# Altium footprint library Transistor.PcbLib: 15 footprints
Each footprint in its own frame and in the unit in brackets; x right, y up, seen from the top. Pads: shape width x height; smd on the part's side, far side on the other; paste and mask are expansions set on the pad; w line width, h text height; cw(c..) or ccw(c..) is an arc to the next point about the centre after c.
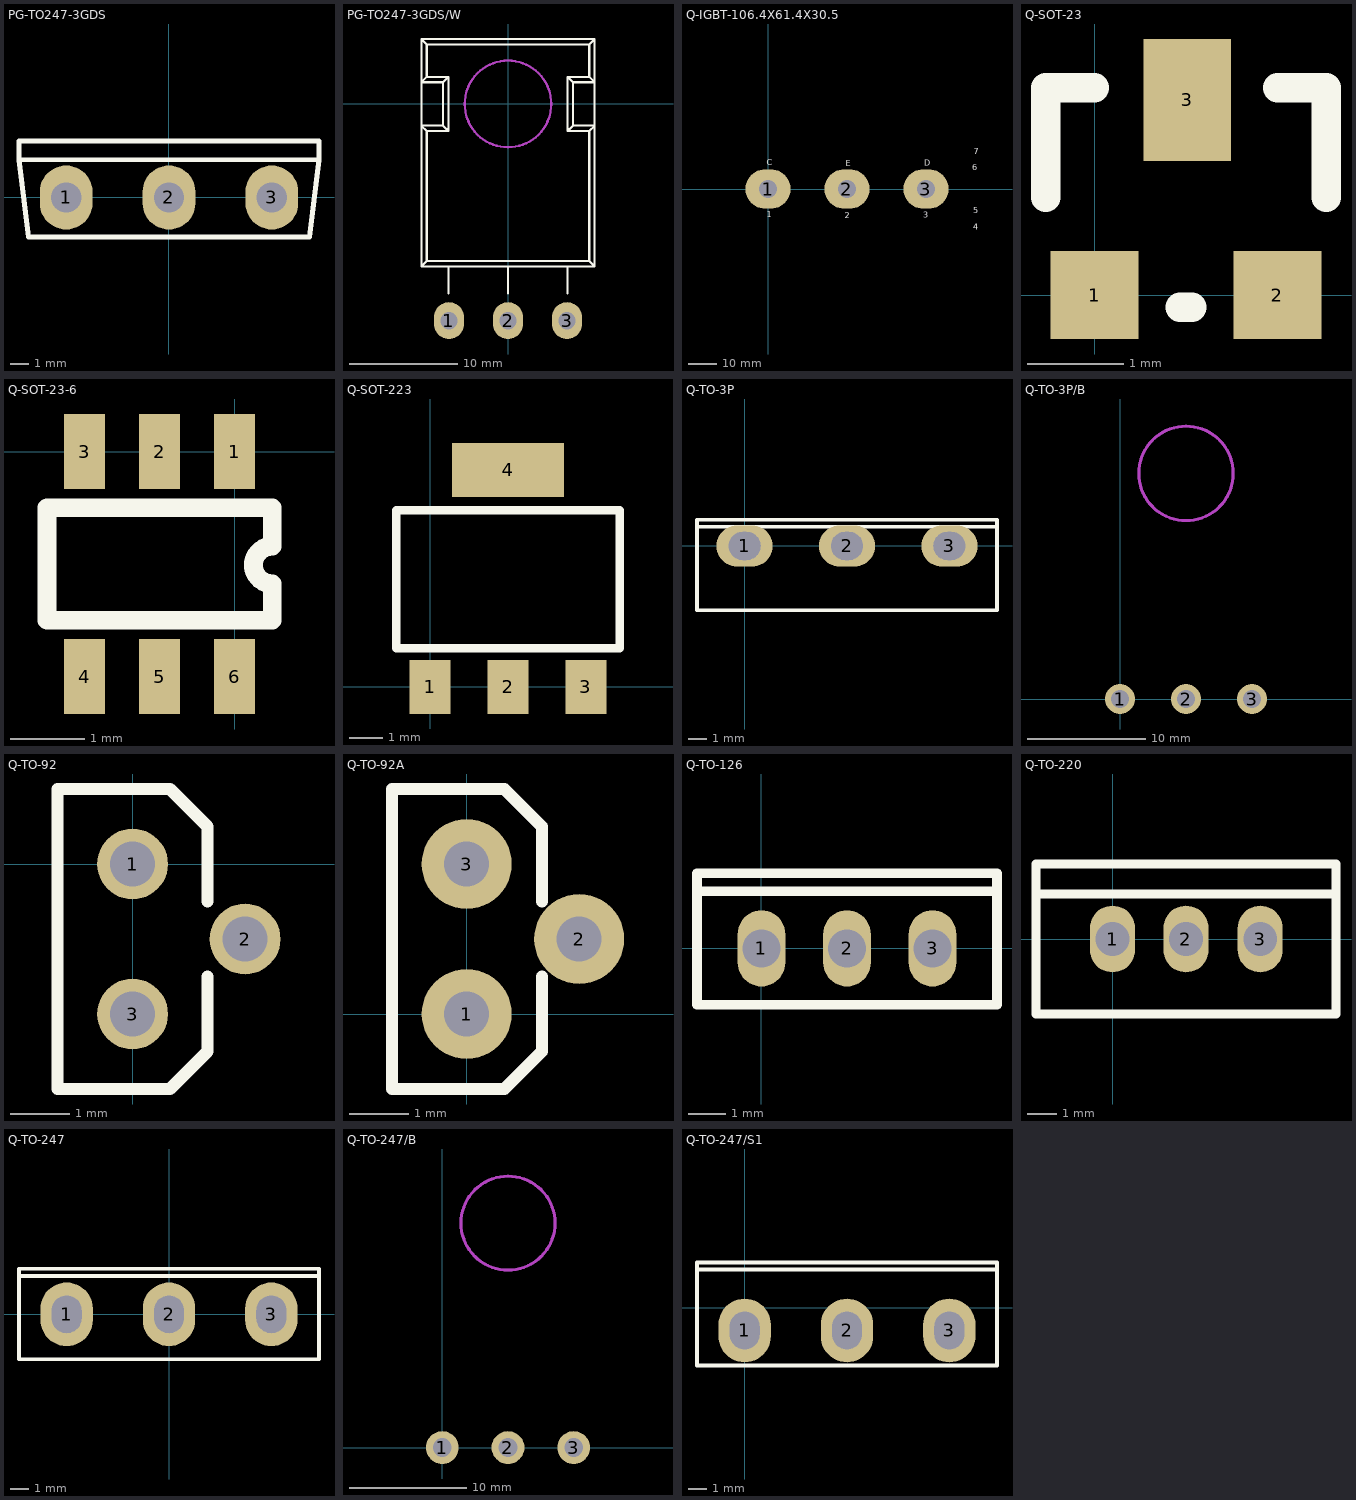
[diagram p0: the footprints below, top view; thin cyan lines are the x and y axes]

## PG-TO247-3GDS [mm]
pads (3):
  oval 2.8x3.4 hole 1.6: 1(-5.45,0) 2(0,0) 3(5.45,0)
Top Overlay:
  lines w0.254: -7.95,2 -7.95,3 7.95,3 7.95,2 ; -7.95,2 7.95,2 ; -7.95,2 -7.45,-2.1 7.45,-2.1 7.95,2
3D body: height 4.83, standoff -1.02, extent -8.077,-2.227 8.077,3.127
3D body: height 4.83, standoff -1.02, extent -8.077,-2.227 8.077,3.127
3D body: height 4.83, standoff -1.02, extent -8.077,-2.227 8.077,3.127
3D body: height 24.64, standoff 4.32, extent -8.077,-2.227 8.077,3.127

## PG-TO247-3GDS/W [mm]
pads (3):
  oval 2.8x3.4 hole 1.6: 1(-5.45,-20) 2(0,-20) 3(5.45,-20)
Top Overlay:
  lines w0.2: -5.5,-17.5 -5.5,-15 ; 0,-17.5 0,-15 ; 5.5,-17.5 5.5,-15 ; -8,-15 -7.5,-14.5 ; -8,-15 -8,6 ; -8,-15 8,-15 ; -8,2 -8,2 ; -8,2 -7.5,2.5 ; -8,2 -6,2 ; -8,6 -7.5,5.5 ; -8,6 8,6 ; -7.5,-14.5 7.5,-14.5 ; -7.5,-14.5 -7.5,-2.5 ; -7.5,-2.5 -5.5,-2.5 ; -7.5,-2.5 -8,-2 -6,-2 ; -7.5,2.5 -5.5,2.5 ; -7.5,2.5 -7.5,3.5 -7.5,5.5 ; -7.5,5.5 7.5,5.5 ; -6,-2 -5.5,-2.5 ; -6,-2 -6,2 ; -6,2 -5.5,2.5 ; -5.5,-2.5 -5.5,-2.5 ; -5.5,-2.5 -5.5,2.5 ; 5.5,-2.5 6,-2 ; 5.5,-2.5 7.5,-2.5 ; 5.5,-2.5 5.5,2.5 ; 5.5,2.5 6,2 ; 5.5,2.5 7.5,2.5 ; 6,-2 6,-2 ; 6,-2 6,2 ; 6,-2 8,-2 7.5,-2.5 ; 6,2 8,2 ; 7.5,-14.5 7.5,-2.5 ; 7.5,-14.5 8,-15 ; 7.5,-14.5 8,-15 ; 7.5,2.5 8,2 ; 7.5,2.5 7.5,5.5 ; 7.5,5.5 8,6 ; 8,-15 8,6 ; 8,2 8,2
Keep-Out Layer:
  circle w0.2: c0,0 r4
Mechanical 1:
  circle w0.2: c0,0 r4

## Q-IGBT-106.4X61.4X30.5 [mm] "IGBT-FF200R12KS4"
pads (3):
  oval 16x14 hole 6.4: 1(0,0) 2(28,0) 3(56,0)
Top Overlay:
  text "7" at 72.9,12.4 h2.03
  text "6" at 72.5,6.7 h2.03
  text "5" at 72.7,-8.6 h2.03
  text "4" at 72.7,-14.5 h2.03
  text "C" at -0.5,8.382 h2.03
  text "3" at 55.1,-10.2 h2.03
  text "2" at 27.2,-10.3 h2.03
  text "1" at -0.5,-10.1 h2.03
  text "E" at 27.586,8.128 h2.03
  text "D" at 55.48,8.274 h2.03
Bottom Overlay:
  circle w0.254: c74.5,24 r3.2
  circle w0.254: c74.5,-24 r3.2
  circle w0.254: c-18.5,-24 r3.2
  circle w0.254: c-18.5,24 r3.2
  lines w0.254: -12,15 68,15 ; -11.984,-14.986 -11.984,14.986 ; -11.968,-14.972 44.958,-14.986 ; 11.022,-14.986 11.022,14.986 17.018,14.986 ; 17.018,-14.786 17.018,15 ; 39.016,-14.986 39.016,14.986 ; 44.958,14.986 44.958,-14.986 ; 67.964,14.986 67.964,-14.986 44.958,-14.986 ; -25.2,-28.7 ccw(c-23.2,-28.7) -23.2,-30.7 79.2,-30.7 ccw(c79.2,-28.7) 81.2,-28.7 81.2,28.7 ccw(c79.2,28.7) 79.2,30.7 -23.2,30.7 ccw(c-23.2,28.7) -25.2,28.7 -25.2,-28.7 ; 72.4,-15.5 72.4,-5.5 79.2,-5.5 79.2,-15.5 72.4,-15.5 ; 72.4,5.5 72.4,15.5 79.2,15.5 79.2,5.5 72.4,5.5 ; 74.4,-13.7 74.4,-13.3 77.2,-13.3 77.2,-13.7 74.4,-13.7 ; 74.4,-7.7 74.4,-7.3 77.2,-7.3 77.2,-7.7 74.4,-7.7 ; 74.4,7.3 74.4,7.7 77.2,7.7 77.2,7.3 74.4,7.3 ; 74.4,13.3 74.4,13.7 77.2,13.7 77.2,13.3 74.4,13.3
3D body: height -7.5, standoff -30.5, extent -25.146,-30.607 81.153,30.607
3D body: height -1.5, standoff -7.5, extent -11.938,-14.986 11.049,14.986
3D body: height -1.5, standoff -7.5, extent 17.018,-14.986 39.049,14.986
3D body: height -1.5, standoff -7.5, extent 44.958,-14.986 67.945,14.986
3D body: height -0.5, standoff -1.5, extent -7.239,-10.16 7.239,10.16
3D body: height -0.5, standoff -1.5, extent 20.955,-10.287 35.433,10.033
3D body: height -0.5, standoff -1.5, extent 48.761,-10.16 63.239,10.16
3D body: height -4, standoff -7.5, extent 72.517,-15.367 79.121,-5.588
3D body: height -4, standoff -7.5, extent 72.517,5.588 79.121,15.367
3D body: height 1, standoff -4, extent 74.422,-13.716 77.089,-13.335
3D body: height 1, standoff -4, extent 74.422,-7.62 77.216,-7.239
3D body: height 1, standoff -4, extent 74.422,7.366 77.216,7.747
3D body: height 1, standoff -4, extent 74.422,13.335 77.216,13.716

## Q-SOT-23 [mil]
pads (3):
  rect 36x36 smd: 1(0,0) 2(75,0)
  rect 36x50 smd: 3(38,80)
Top Overlay:
  lines w12: -20,40 -20,85 0,85 ; 35,-5 40,-5 ; 75,85 95,85 95,40
3D body: height 10, standoff 0, extent 58,-10 92,15
3D body: height 10, standoff 0, extent -17,-10 17,15
3D body: height 10, standoff 0, extent 21,65 55,90
3D body: height 50, standoff 3, extent -20,12.5 95,67.5

## Q-SOT-23-6 [mil]
pads (6):
  rect 22x40 smd: 1(0,0) 2(-40,0) 3(-80,0) 4(-80,-120) 5(-40,-120) 6(0,-120)
Top Overlay:
  lines w10: 20,-73 20,-90 -100,-90 -100,-30 20,-30 20,-50.56 ccw(c20,-60.56) 20,-70.56
3D body: height 10, standoff 0, extent -49.5,-127 -30.5,-85
3D body: height 10, standoff 0, extent -9.5,-127 9.5,-85
3D body: height 10, standoff 0, extent -89.5,-127 -70.5,-85
3D body: height 10, standoff 0, extent -9.5,-32 9.5,10
3D body: height 10, standoff 0, extent -49.5,-32 -30.5,10
3D body: height 59.06, standoff 3.94, extent -101,-89 19,-29
3D body: height 10, standoff 0, extent -89.5,-32 -70.5,10

## Q-SOT-223 [mm]
pads (4):
  rect 1.2x1.6 smd: 1(0,0) 2(2.3,0) 3(4.6,0)
  rect 3.3x1.6 smd: 4(2.3,6.4)
Top Overlay:
  lines w0.254: -1,1.143 -1,5.207 5.6,5.207 5.6,1.143 -1,1.143
3D body: height 1.27, standoff 0.08, extent -1.129,1.4 5.729,4.956
3D body: height 0.25, standoff 0, extent -0.432,-0.8 0.432,1.486
3D body: height 0.25, standoff 0, extent 1.868,-0.8 2.732,1.486
3D body: height 0.25, standoff 0, extent 4.168,-0.8 5.032,1.486
3D body: height 0.25, standoff 0, extent 0.928,4.95 3.722,7.236

## Q-TO-3P [mm]
pads (3):
  oval 3x2.2 hole 1.5 slot 1.7 at 0 deg: 1(0,0) 2(5.461,0) 3(10.922,0)
Top Overlay:
  lines w0.2: -2.54,1.019 13.462,1.019 ; -2.54,-3.426 13.462,-3.426 13.462,1.4 -2.54,1.4 -2.54,-3.426
3D body: height 4.83, standoff -1.02, extent 10.16,-0.254 11.684,0.254
3D body: height 4.83, standoff -1.02, extent 4.699,-0.254 6.223,0.254
3D body: height 4.83, standoff -1.02, extent -0.762,-0.254 0.762,0.254
3D body: height 24.64, standoff 4.32, extent -2.54,-3.314 13.462,1.004

## Q-TO-3P/B [mm] "TO-247/B"
pads (3):
  round 2.54 hole 1.5: 1(0,0) 2(5.588,0) 3(11.176,0)
Bottom Overlay:
  lines w0.254: -1.524,4.064 -1.524,1.27 -1.27,0.762 ; 1.27,0.762 1.524,1.27 1.524,4.064 ; 4.064,4.064 4.064,1.27 4.318,0.762 ; 6.858,0.762 7.112,1.27 7.112,4.064 ; 9.652,4.064 9.652,1.27 9.906,0.762 ; 12.446,0.762 12.7,1.27 12.7,4.064 ; -2.794,4.064 13.97,4.064 13.97,22.098 12.7,24.13 -1.524,24.13 -2.794,22.098 -2.794,4.064 ; -0.254,7.582 -0.254,13.424 0.254,13.932 10.922,13.932 11.43,13.424 11.43,7.582 10.922,7.074 0.254,7.074 -0.254,7.582
Keep-Out Layer:
  circle w0.254: c5.588,19.1 r4
Mechanical 1:
  circle w0.254: c5.588,19.1 r4
3D body: height -7.62, standoff -12.7, extent -2.794,4.064 13.97,24.13
3D body: height 0, standoff -13.97, extent 3.81,17.272 7.352,20.821
3D body: height -9.65, standoff -10.16, extent -1.143,0.127 1.143,4.064
3D body: height -9.65, standoff -10.16, extent 10.033,0.127 12.319,4.064
3D body: height -9.65, standoff -10.16, extent 3.937,0.127 7.239,4.064
3D body: height 0.76, standoff -10.16, extent -0.762,0.127 0.762,0.381
3D body: height 0.76, standoff -10.16, extent 4.826,0.127 6.35,0.381
3D body: height 0.76, standoff -10.16, extent 10.414,0.127 11.938,0.381

## Q-TO-92 [mm]
pads (3):
  round 1.2 hole 0.762: 1(0,0) 2(1.905,-1.27) 3(0,-2.54)
Top Overlay:
  lines w0.203: 1.27,-1.905 1.27,-3.175 0.635,-3.81 -1.27,-3.81 -1.27,1.27 0.635,1.27 1.27,0.635 1.27,-0.635
3D body: height 5.2, standoff -0.57, extent 0.031,-1.523 2.032,-1.016
3D body: height 5.33, standoff -0.51, extent -0.254,-2.794 0.252,-2.287
3D body: height 5.33, standoff -0.51, extent -0.254,-0.254 0.252,0.253
3D body: height 7.62, standoff 5.08, extent -1.27,-3.556 1.27,1.27

## Q-TO-92A [mil]
pads (3):
  round 60 hole 30: 1(0,0) 2(75,50) 3(0,100)
Top Overlay:
  lines w8: 50,25 50,-25 25,-50 -50,-50 -50,150 25,150 50,125 50,75
3D body: height 300, standoff 200, extent -30,-40 70,150
3D body: height 210, standoff -20, extent -10,90 9.92,109.96
3D body: height 210, standoff -20, extent -10,-10 9.92,9.96
3D body: height 204.75, standoff -22.57, extent 1.23,40.04 80,60

## Q-TO-126 [mil]
pads (3):
  oval 50x80 hole 40: 1(0,0) 2(89.76,0) 3(179.53,0)
Top Overlay:
  lines w10: -67.72,60 247.24,60 ; -67.72,-59.06 -67.72,78.74 247.24,78.74 247.24,-59.06 -67.72,-59.06
3D body: height 150, standoff -40, extent -20,-5 20,5
3D body: height 550, standoff 150, extent -70,-60 250,80
3D body: height 150, standoff -40, extent 69.76,-5 109.76,5
3D body: height 150, standoff -40, extent 159.53,-5 199.53,5

## Q-TO-220 [mil]
pads (3):
  oval 60x89 hole 45: 1(0,0) 2(98,0) 3(197,0)
Top Overlay:
  lines w12: -102,60 298,60 ; -102,-100 298,-100 298,100 -102,100 -102,-100
3D body: height 150, standoff -40, extent 177,-5 217,5
3D body: height 150, standoff -40, extent 78,-5 118,5
3D body: height 150, standoff -40, extent -20,-5 20,5
3D body: height 850, standoff 550, extent -100,60 300,100
3D body: height 550, standoff 150, extent -100,-80 300,100

## Q-TO-247 [mm]
pads (3):
  oval 2.8x3.4 hole 1.6 slot 2 at 90 deg: 1(-5.461,0) 2(0,0) 3(5.461,0)
Top Overlay:
  lines w0.2: -8.001,2.047 8.001,2.047 ; -8.001,-2.398 8.001,-2.398 8.001,2.428 -8.001,2.428 -8.001,-2.398
3D body: height 4.83, standoff -1.02, extent 4.699,-0.254 6.223,0.254
3D body: height 4.83, standoff -1.02, extent -0.762,-0.254 0.762,0.254
3D body: height 4.83, standoff -1.02, extent -6.223,-0.254 -4.699,0.254
3D body: height 24.64, standoff 4.32, extent -8.001,-2.286 8.001,2.032

## Q-TO-247/B [mil]
pads (3):
  round 110 hole 62.99: 1(0,0) 2(220,0) 3(440,0)
Bottom Overlay:
  lines w10: -60,160 -60,50 -50,30 ; 50,30 60,50 60,160 ; 160,160 160,50 170,30 ; 270,30 280,50 280,160 ; 380,160 380,50 390,30 ; 490,30 500,50 500,160 ; -110,160 -110,870 -60,950 500,950 550,870 550,160 -110,160 ; -10,298.5 10,278.5 430,278.5 450,298.5 450,528.5 430,548.5 10,548.5 -10,528.5 -10,298.5
Keep-Out Layer:
  circle w10: c220,751.97 r157.48
Mechanical 1:
  circle w10: c220,751.97 r157.48
3D body: height 30, standoff -400, extent 410,5 470,15
3D body: height 30, standoff -400, extent 190,5 250,15
3D body: height 30, standoff -400, extent -30,5 30,15
3D body: height -380, standoff -400, extent 155,5 285,160
3D body: height -380, standoff -400, extent 395,5 485,160
3D body: height -380, standoff -400, extent -45,5 45,160
3D body: height 0, standoff -550, extent 150,680 289.45,819.72
3D body: height -300, standoff -500, extent -110,160 550,950

## Q-TO-247/S1 [mm]
pads (3):
  oval 2.8x3.4 hole 1.6 slot 2 at 90 deg: 1(0,-1.2) 2(5.461,-1.2) 3(10.922,-1.2)
Top Overlay:
  lines w0.2: -2.54,2.047 13.462,2.047 ; -2.54,-3.072 -2.54,2.428 13.462,2.428 13.462,-3.072 -2.54,-3.072
3D body: height 24.64, standoff 4.32, extent -2.54,-3.048 13.462,2.032
3D body: height 4.83, standoff -1.02, extent -0.762,-1.454 0.762,-0.946
3D body: height 4.83, standoff -1.02, extent 4.699,-1.454 6.223,-0.946
3D body: height 4.83, standoff -1.02, extent 10.16,-1.454 11.684,-0.946